# Altium footprint library SnapEDApcb.PcbLib: 1 footprints
Each footprint in its own frame and in the unit in brackets; x right, y up, seen from the top. Pads: shape width x height; smd on the part's side, far side on the other; paste and mask are expansions set on the pad; w line width, h text height; cw(c..) or ccw(c..) is an arc to the next point about the centre after c.
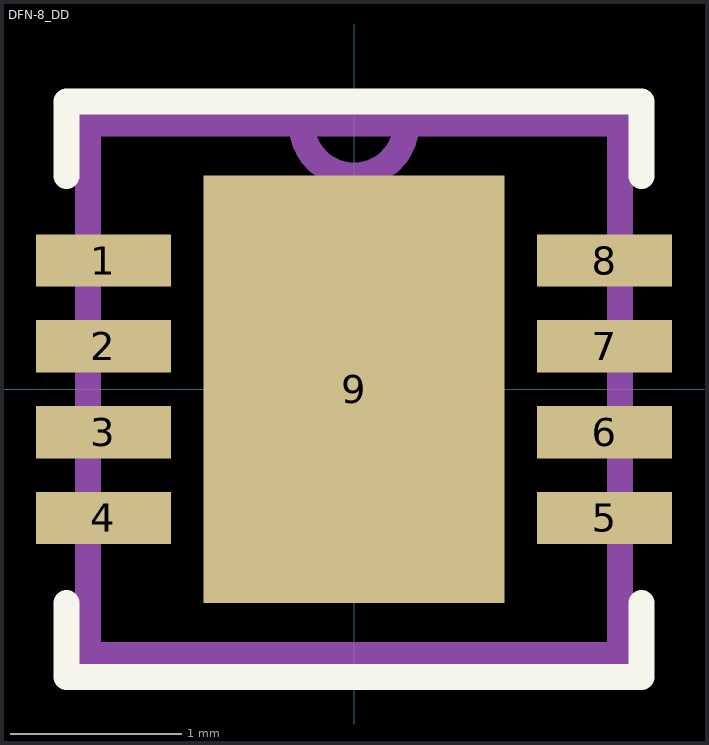
[diagram p0: the footprint, top view; thin cyan lines are the x and y axes]

## DFN-8_DD [mil]
pads (9):
  rect 31x12 smd: 1(-57.5,29.53) 2(-57.5,9.84) 3(-57.5,-9.84) 4(-57.5,-29.53) 5(57.5,-29.53) 6(57.5,-9.84) 7(57.5,9.84) 8(57.5,29.53)
  rect 69x98 smd paste-78.74: 9(0,0)
Top Overlay:
  lines w6: -66,-49 -66,-66 66,-66 66,-49 ; -66,49 -66,66 66,66 66,49
Top Paste:
  region: 34.5,-49 -34.5,-49 -34.5,49 34.5,49
Mechanical 13:
  lines w6: -12,61 ccw(c0,61) 12,61 ; -12,61 12,61 ; -12,61 -61,61 -61,-61 61,-61 61,61 12,61